# EAGLE library part MAX5395LATA (library LARS_409_MC3)
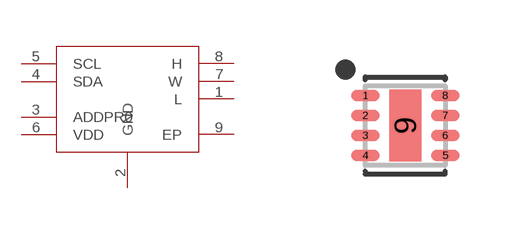
[diagram p23: symbol with the pads of SON-9T80X180N; footprint SON-9T80X180N]

Designator prefix -

## MAX5395LATA  [SON-9T80X180N]
1  L
2  GND
3  ADDPR0
4  SDA
5  SCL
6  VDD
7  W
8  H
9  EP

## Footprint SON-9T80X180N (pad centres in mm)
8-SON (DFN), 0.50 mm pitch, 2.00 X 2.00 X 0.80 mm body, 1.80 X 0.80 mm thermal pad 8-pin SON (DFN) package with 0.50 mm pitch with body size 2.00 X 2.00 X 0.80 mm and thermal pad size 1.80 X 0.80 mm
smd 0.712 x 0.282: 1 -1,0.75; 2 -1,0.25; 3 -1,-0.25; 4 -1,-0.75; 5 1,-0.75; 6 1,-0.25; 7 1,0.25; 8 1,0.75
smd 0.8 x 1.8: 9 0,0